# EAGLE library part ALPS-BLUE (library FHD-PASSIVES)
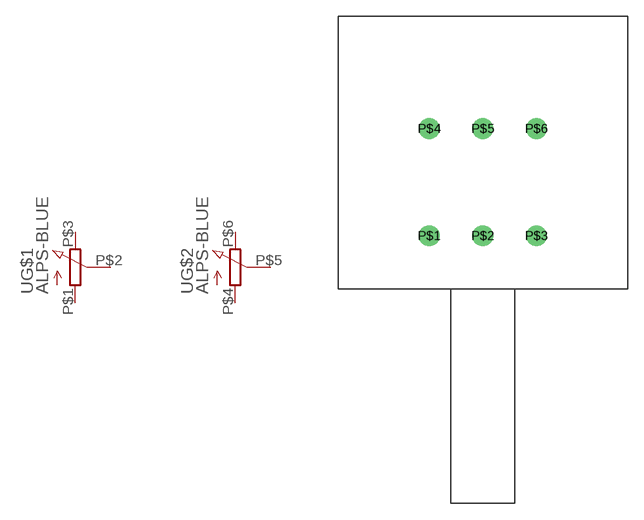
[diagram p0: symbol with the pads of ALPS-BLUE; footprint ALPS-BLUE]

Designator prefix -; gates G$1=POT_EU- G$2=POT_EU-

## ALPS-BLUE  [ALPS-BLUE]
P$1  G$1:A  pas
P$2  G$1:T  pas
P$3  G$1:B  pas
P$4  G$2:A  pas
P$5  G$2:T  pas
P$6  G$2:B  pas

## Footprint ALPS-BLUE (pad centres in mm)
drill 1.2 pad 1.93: P$1 -5,-5; P$2 0,-5; P$3 5,-5; P$4 -5,5; P$5 0,5; P$6 5,5